# Altium schematic symbol library relay.SchLib: 2 symbols
Pins are listed as number, name and electrical type; pins without a type are passive.

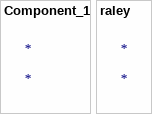
[diagram p0: symbols Component_1 to raley]

## Component_1
designator *

## raley
designator *